# Altium footprint library TI-DSJ.PcbLib: 1 footprints
Each footprint in its own frame and in the unit in brackets; x right, y up, seen from the top. Pads: shape width x height; smd on the part's side, far side on the other; paste and mask are expansions set on the pad; w line width, h text height; cw(c..) or ccw(c..) is an arc to the next point about the centre after c.
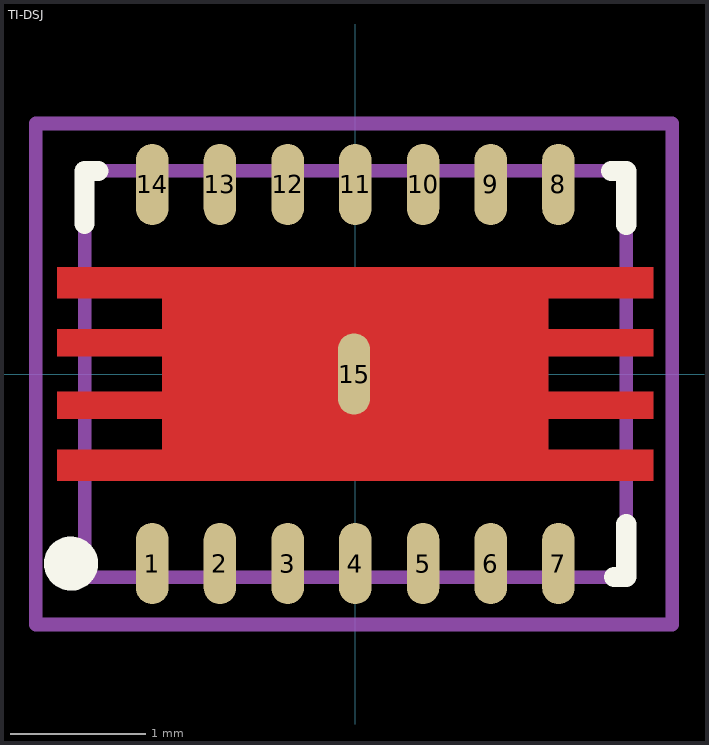
[diagram p0: the footprint, top view; thin cyan lines are the x and y axes]

## TI-DSJ [mm]
pads (15):
  rrect100% 0.24x0.6 smd: 1(-1.5,-1.4) 2(-1,-1.4) 3(-0.5,-1.4) 4(0,-1.4) 5(0.5,-1.4) 6(1,-1.4) 7(1.5,-1.4) 8(1.5,1.4) 9(1,1.4) 10(0.5,1.4) 11(0,1.4) 12(-0.5,1.4) 13(-1,1.4) 14(-1.5,1.4) 15(-0.01,0)
Top Layer:
  region: -2.2,-0.56 -1.425,-0.56 -1.425,-0.33 -2.2,-0.33 -2.2,-0.13 -1.425,-0.13 -1.425,0.13 -2.2,0.13 -2.2,0.33 -1.425,0.33 -1.425,0.56 -2.2,0.56 -2.2,0.79 2.2,0.79 2.2,0.56 1.425,0.56 1.425,0.33 2.2,0.33 2.2,0.13 1.425,0.13 1.425,-0.13 2.2,-0.13 2.2,-0.33 1.425,-0.33 1.425,-0.56 2.2,-0.56 2.2,-0.79 -2.2,-0.79
Top Overlay:
  circle w0.2: c-2.1,-1.4 r0.1
  lines w0.15: -2,1.11 -2,1.5 -1.9,1.5 ; 1.89,1.5 2,1.5 2,1.1 ; 1.91,-1.5 2,-1.5 2,-1.11
Mechanical 13:
  lines w0.1: -2,-1.5 -2,1.5 2,1.5 2,-1.5 -2,-1.5
Mechanical 15:
  lines w0.1: -2.36,-1.85 -2.36,1.85 2.34,1.85 2.34,-1.85 -2.36,-1.85
3D body: height 1, standoff -0.05, extent -2.105,-1.615 2.105,1.595